# Altium footprint library Connector_Stocko.PcbLib: 20 footprints (part 1 of 2)
Each footprint in its own frame and in the unit in brackets; x right, y up, seen from the top. Pads: shape width x height; smd on the part's side, far side on the other; paste and mask are expansions set on the pad; w line width, h text height; cw(c..) or ccw(c..) is an arc to the next point about the centre after c.
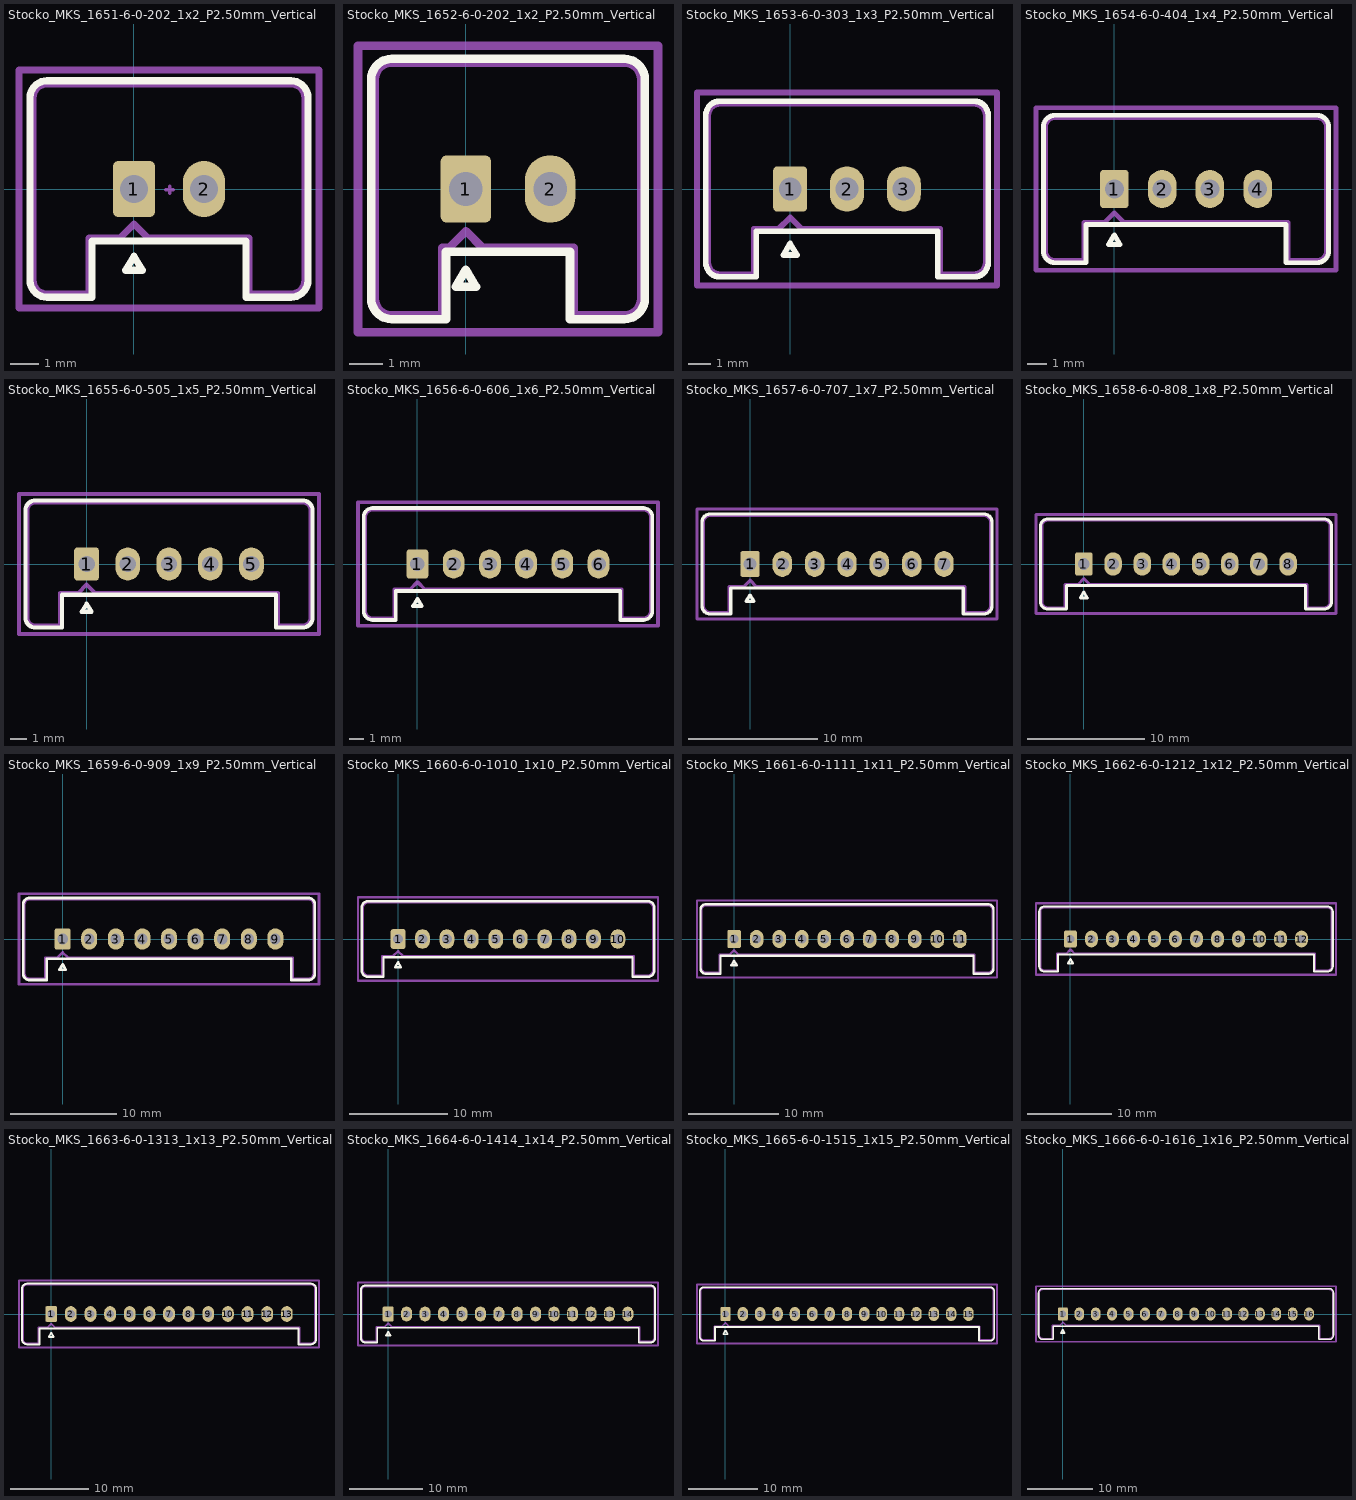
[diagram p0: the footprints below, top view; thin cyan lines are the x and y axes]

## Stocko_MKS_1651-6-0-202_1x2_P2.50mm_Vertical [mm]
pads (2):
  rrect25% 1.5x2 hole 1: 1(0,0)
  rrect100% 1.5x2 hole 1: 2(2.5,0)
F.SilkS:
  lines w0.254: -3.71,-3.25 ccw(c-3.1,-3.25) -3.1,-3.86 -1.49,-3.86 -1.49,-1.86 3.99,-1.86 3.99,-3.86 5.6,-3.86 ccw(c5.6,-3.25) 6.21,-3.25 6.21,3.25 ccw(c5.6,3.25) 5.6,3.86 -3.1,3.86 ccw(c-3.1,3.25) -3.71,3.25 -3.71,-3.25 ; -0.3,-2.9 0,-2.4 0.3,-2.9 -0.3,-2.9
Top Component Center:
  lines w0.127: 1.144,-0.03 1.398,-0.03 ; 1.271,-0.157 1.271,0.097
Top Assembly:
  lines w0.254: -3.6,-3.25 ccw(c-3.1,-3.25) -3.1,-3.75 -1.6,-3.75 -1.6,-1.75 -0.5,-1.75 0,-1.25 0.5,-1.75 4.1,-1.75 4.1,-3.75 5.6,-3.75 ccw(c5.6,-3.25) 6.1,-3.25 6.1,3.25 ccw(c5.6,3.25) 5.6,3.75 -3.1,3.75 ccw(c-3.1,3.25) -3.6,3.25 -3.6,-3.25
  text "'.Designator'" at -2.797,1.16 h1
Top Courtyard:
  lines w0.254: -4.1,-4.25 6.6,-4.25 6.6,4.25 -4.1,4.25 -4.1,-4.25
Top Designator:
  text ".Designator" at -6.368,-0.508 h1.52

## Stocko_MKS_1652-6-0-202_1x2_P2.50mm_Vertical [mm]
pads (2):
  rrect25% 1.5x2 hole 1: 1(0,0)
  rrect100% 1.5x2 hole 1: 2(2.5,0)
F.SilkS:
  lines w0.254: -2.81,-3.25 ccw(c-2.2,-3.25) -2.2,-3.86 -0.59,-3.86 -0.59,-1.86 3.09,-1.86 3.09,-3.86 4.7,-3.86 ccw(c4.7,-3.25) 5.31,-3.25 5.31,3.25 ccw(c4.7,3.25) 4.7,3.86 -2.2,3.86 ccw(c-2.2,3.25) -2.81,3.25 -2.81,-3.25 ; -0.3,-2.9 0,-2.4 0.3,-2.9 -0.3,-2.9
Top Assembly:
  lines w0.254: -2.7,-3.25 ccw(c-2.2,-3.25) -2.2,-3.75 -0.7,-3.75 -0.7,-1.75 -0.5,-1.75 0,-1.25 0.5,-1.75 3.2,-1.75 3.2,-3.75 4.7,-3.75 ccw(c4.7,-3.25) 5.2,-3.25 5.2,3.25 ccw(c4.7,3.25) 4.7,3.75 -2.2,3.75 ccw(c-2.2,3.25) -2.7,3.25 -2.7,-3.25
  text "'.Designator'" at -2.797,1.16 h1
Top Courtyard:
  lines w0.254: -3.2,-4.25 5.7,-4.25 5.7,4.25 -3.2,4.25 -3.2,-4.25
Top Designator:
  text ".Designator" at -6.368,-0.508 h1.52

## Stocko_MKS_1653-6-0-303_1x3_P2.50mm_Vertical [mm]
pads (3):
  rrect25% 1.5x2 hole 1: 1(0,0)
  rrect100% 1.5x2 hole 1: 2(2.5,0) 3(5,0)
F.SilkS:
  lines w0.254: -3.71,-3.25 ccw(c-3.1,-3.25) -3.1,-3.86 -1.49,-3.86 -1.49,-1.86 6.49,-1.86 6.49,-3.86 8.1,-3.86 ccw(c8.1,-3.25) 8.71,-3.25 8.71,3.25 ccw(c8.1,3.25) 8.1,3.86 -3.1,3.86 ccw(c-3.1,3.25) -3.71,3.25 -3.71,-3.25 ; -0.3,-2.9 0,-2.4 0.3,-2.9 -0.3,-2.9
Top Assembly:
  lines w0.254: -3.6,-3.25 ccw(c-3.1,-3.25) -3.1,-3.75 -1.6,-3.75 -1.6,-1.75 -0.5,-1.75 0,-1.25 0.5,-1.75 6.6,-1.75 6.6,-3.75 8.1,-3.75 ccw(c8.1,-3.25) 8.6,-3.25 8.6,3.25 ccw(c8.1,3.25) 8.1,3.75 -3.1,3.75 ccw(c-3.1,3.25) -3.6,3.25 -3.6,-3.25
  text "'.Designator'" at -1.547,1.16 h1
Top Courtyard:
  lines w0.254: -4.1,-4.25 9.1,-4.25 9.1,4.25 -4.1,4.25 -4.1,-4.25
Top Designator:
  text ".Designator" at -5.118,-0.508 h1.52

## Stocko_MKS_1654-6-0-404_1x4_P2.50mm_Vertical [mm]
pads (4):
  rrect25% 1.5x2 hole 1: 1(0,0)
  rrect100% 1.5x2 hole 1: 2(2.5,0) 3(5,0) 4(7.5,0)
F.SilkS:
  lines w0.254: -3.71,-3.25 ccw(c-3.1,-3.25) -3.1,-3.86 -1.49,-3.86 -1.49,-1.86 8.99,-1.86 8.99,-3.86 10.6,-3.86 ccw(c10.6,-3.25) 11.21,-3.25 11.21,3.25 ccw(c10.6,3.25) 10.6,3.86 -3.1,3.86 ccw(c-3.1,3.25) -3.71,3.25 -3.71,-3.25 ; -0.3,-2.9 0,-2.4 0.3,-2.9 -0.3,-2.9
Top Assembly:
  lines w0.254: -3.6,-3.25 ccw(c-3.1,-3.25) -3.1,-3.75 -1.6,-3.75 -1.6,-1.75 -0.5,-1.75 0,-1.25 0.5,-1.75 9.1,-1.75 9.1,-3.75 10.6,-3.75 ccw(c10.6,-3.25) 11.1,-3.25 11.1,3.25 ccw(c10.6,3.25) 10.6,3.75 -3.1,3.75 ccw(c-3.1,3.25) -3.6,3.25 -3.6,-3.25
  text "'.Designator'" at -0.297,1.16 h1
Top Courtyard:
  lines w0.254: -4.1,-4.25 11.6,-4.25 11.6,4.25 -4.1,4.25 -4.1,-4.25
Top Designator:
  text ".Designator" at -3.868,-0.508 h1.52

## Stocko_MKS_1655-6-0-505_1x5_P2.50mm_Vertical [mm]
pads (5):
  rrect25% 1.5x2 hole 1: 1(0,0)
  rrect100% 1.5x2 hole 1: 2(2.5,0) 3(5,0) 4(7.5,0) 5(10,0)
F.SilkS:
  lines w0.254: -3.71,-3.25 ccw(c-3.1,-3.25) -3.1,-3.86 -1.49,-3.86 -1.49,-1.86 11.49,-1.86 11.49,-3.86 13.1,-3.86 ccw(c13.1,-3.25) 13.71,-3.25 13.71,3.25 ccw(c13.1,3.25) 13.1,3.86 -3.1,3.86 ccw(c-3.1,3.25) -3.71,3.25 -3.71,-3.25 ; -0.3,-2.9 0,-2.4 0.3,-2.9 -0.3,-2.9
Top Assembly:
  lines w0.254: -3.6,-3.25 ccw(c-3.1,-3.25) -3.1,-3.75 -1.6,-3.75 -1.6,-1.75 -0.5,-1.75 0,-1.25 0.5,-1.75 11.6,-1.75 11.6,-3.75 13.1,-3.75 ccw(c13.1,-3.25) 13.6,-3.25 13.6,3.25 ccw(c13.1,3.25) 13.1,3.75 -3.1,3.75 ccw(c-3.1,3.25) -3.6,3.25 -3.6,-3.25
  text "'.Designator'" at 0.953,1.16 h1
Top Courtyard:
  lines w0.254: -4.1,-4.25 14.1,-4.25 14.1,4.25 -4.1,4.25 -4.1,-4.25
Top Designator:
  text ".Designator" at -2.618,-0.508 h1.52

## Stocko_MKS_1656-6-0-606_1x6_P2.50mm_Vertical [mm]
pads (6):
  rrect25% 1.5x2 hole 1: 1(0,0)
  rrect100% 1.5x2 hole 1: 2(2.5,0) 3(5,0) 4(7.5,0) 5(10,0) 6(12.5,0)
F.SilkS:
  lines w0.254: -3.71,-3.25 ccw(c-3.1,-3.25) -3.1,-3.86 -1.49,-3.86 -1.49,-1.86 13.99,-1.86 13.99,-3.86 15.6,-3.86 ccw(c15.6,-3.25) 16.21,-3.25 16.21,3.25 ccw(c15.6,3.25) 15.6,3.86 -3.1,3.86 ccw(c-3.1,3.25) -3.71,3.25 -3.71,-3.25 ; -0.3,-2.9 0,-2.4 0.3,-2.9 -0.3,-2.9
Top Assembly:
  lines w0.254: -3.6,-3.25 ccw(c-3.1,-3.25) -3.1,-3.75 -1.6,-3.75 -1.6,-1.75 -0.5,-1.75 0,-1.25 0.5,-1.75 14.1,-1.75 14.1,-3.75 15.6,-3.75 ccw(c15.6,-3.25) 16.1,-3.25 16.1,3.25 ccw(c15.6,3.25) 15.6,3.75 -3.1,3.75 ccw(c-3.1,3.25) -3.6,3.25 -3.6,-3.25
  text "'.Designator'" at 2.203,1.16 h1
Top Courtyard:
  lines w0.254: -4.1,-4.25 16.6,-4.25 16.6,4.25 -4.1,4.25 -4.1,-4.25
Top Designator:
  text ".Designator" at -1.368,-0.508 h1.52

## Stocko_MKS_1657-6-0-707_1x7_P2.50mm_Vertical [mm]
pads (7):
  rrect25% 1.5x2 hole 1: 1(0,0)
  rrect100% 1.5x2 hole 1: 2(2.5,0) 3(5,0) 4(7.5,0) 5(10,0) 6(12.5,0) 7(15,0)
F.SilkS:
  lines w0.254: -3.71,-3.25 ccw(c-3.1,-3.25) -3.1,-3.86 -1.49,-3.86 -1.49,-1.86 16.49,-1.86 16.49,-3.86 18.1,-3.86 ccw(c18.1,-3.25) 18.71,-3.25 18.71,3.25 ccw(c18.1,3.25) 18.1,3.86 -3.1,3.86 ccw(c-3.1,3.25) -3.71,3.25 -3.71,-3.25 ; -0.3,-2.9 0,-2.4 0.3,-2.9 -0.3,-2.9
Top Assembly:
  lines w0.254: -3.6,-3.25 ccw(c-3.1,-3.25) -3.1,-3.75 -1.6,-3.75 -1.6,-1.75 -0.5,-1.75 0,-1.25 0.5,-1.75 16.6,-1.75 16.6,-3.75 18.1,-3.75 ccw(c18.1,-3.25) 18.6,-3.25 18.6,3.25 ccw(c18.1,3.25) 18.1,3.75 -3.1,3.75 ccw(c-3.1,3.25) -3.6,3.25 -3.6,-3.25
  text "'.Designator'" at 3.453,1.16 h1
Top Courtyard:
  lines w0.254: -4.1,-4.25 19.1,-4.25 19.1,4.25 -4.1,4.25 -4.1,-4.25
Top Designator:
  text ".Designator" at -0.118,-0.508 h1.52

## Stocko_MKS_1658-6-0-808_1x8_P2.50mm_Vertical [mm]
pads (8):
  rrect25% 1.5x2 hole 1: 1(0,0)
  rrect100% 1.5x2 hole 1: 2(2.5,0) 3(5,0) 4(7.5,0) 5(10,0) 6(12.5,0) 7(15,0) 8(17.5,0)
F.SilkS:
  lines w0.254: -3.71,-3.25 ccw(c-3.1,-3.25) -3.1,-3.86 -1.49,-3.86 -1.49,-1.86 18.99,-1.86 18.99,-3.86 20.6,-3.86 ccw(c20.6,-3.25) 21.21,-3.25 21.21,3.25 ccw(c20.6,3.25) 20.6,3.86 -3.1,3.86 ccw(c-3.1,3.25) -3.71,3.25 -3.71,-3.25 ; -0.3,-2.9 0,-2.4 0.3,-2.9 -0.3,-2.9
Top Assembly:
  lines w0.254: -3.6,-3.25 ccw(c-3.1,-3.25) -3.1,-3.75 -1.6,-3.75 -1.6,-1.75 -0.5,-1.75 0,-1.25 0.5,-1.75 19.1,-1.75 19.1,-3.75 20.6,-3.75 ccw(c20.6,-3.25) 21.1,-3.25 21.1,3.25 ccw(c20.6,3.25) 20.6,3.75 -3.1,3.75 ccw(c-3.1,3.25) -3.6,3.25 -3.6,-3.25
  text "'.Designator'" at 4.703,1.16 h1
Top Courtyard:
  lines w0.254: -4.1,-4.25 21.6,-4.25 21.6,4.25 -4.1,4.25 -4.1,-4.25
Top Designator:
  text ".Designator" at 1.132,-0.508 h1.52

## Stocko_MKS_1659-6-0-909_1x9_P2.50mm_Vertical [mm]
pads (9):
  rrect25% 1.5x2 hole 1: 1(0,0)
  rrect100% 1.5x2 hole 1: 2(2.5,0) 3(5,0) 4(7.5,0) 5(10,0) 6(12.5,0) 7(15,0) 8(17.5,0) 9(20,0)
F.SilkS:
  lines w0.254: -3.71,-3.25 ccw(c-3.1,-3.25) -3.1,-3.86 -1.49,-3.86 -1.49,-1.86 21.49,-1.86 21.49,-3.86 23.1,-3.86 ccw(c23.1,-3.25) 23.71,-3.25 23.71,3.25 ccw(c23.1,3.25) 23.1,3.86 -3.1,3.86 ccw(c-3.1,3.25) -3.71,3.25 -3.71,-3.25 ; -0.3,-2.9 0,-2.4 0.3,-2.9 -0.3,-2.9
Top Assembly:
  lines w0.254: -3.6,-3.25 ccw(c-3.1,-3.25) -3.1,-3.75 -1.6,-3.75 -1.6,-1.75 -0.5,-1.75 0,-1.25 0.5,-1.75 21.6,-1.75 21.6,-3.75 23.1,-3.75 ccw(c23.1,-3.25) 23.6,-3.25 23.6,3.25 ccw(c23.1,3.25) 23.1,3.75 -3.1,3.75 ccw(c-3.1,3.25) -3.6,3.25 -3.6,-3.25
  text "'.Designator'" at 5.953,1.16 h1
Top Courtyard:
  lines w0.254: -4.1,-4.25 24.1,-4.25 24.1,4.25 -4.1,4.25 -4.1,-4.25
Top Designator:
  text ".Designator" at 2.382,-0.508 h1.52

## Stocko_MKS_1660-6-0-1010_1x10_P2.50mm_Vertical [mm]
pads (10):
  rrect25% 1.5x2 hole 1: 1(0,0)
  rrect100% 1.5x2 hole 1: 2(2.5,0) 3(5,0) 4(7.5,0) 5(10,0) 6(12.5,0) 7(15,0) 8(17.5,0) 9(20,0) 10(22.5,0)
F.SilkS:
  lines w0.254: -3.71,-3.25 ccw(c-3.1,-3.25) -3.1,-3.86 -1.49,-3.86 -1.49,-1.86 23.99,-1.86 23.99,-3.86 25.6,-3.86 ccw(c25.6,-3.25) 26.21,-3.25 26.21,3.25 ccw(c25.6,3.25) 25.6,3.86 -3.1,3.86 ccw(c-3.1,3.25) -3.71,3.25 -3.71,-3.25 ; -0.3,-2.9 0,-2.4 0.3,-2.9 -0.3,-2.9
Top Assembly:
  lines w0.254: -3.6,-3.25 ccw(c-3.1,-3.25) -3.1,-3.75 -1.6,-3.75 -1.6,-1.75 -0.5,-1.75 0,-1.25 0.5,-1.75 24.1,-1.75 24.1,-3.75 25.6,-3.75 ccw(c25.6,-3.25) 26.1,-3.25 26.1,3.25 ccw(c25.6,3.25) 25.6,3.75 -3.1,3.75 ccw(c-3.1,3.25) -3.6,3.25 -3.6,-3.25
  text "'.Designator'" at 7.203,1.16 h1
Top Courtyard:
  lines w0.254: -4.1,-4.25 26.6,-4.25 26.6,4.25 -4.1,4.25 -4.1,-4.25
Top Designator:
  text ".Designator" at 3.632,-0.508 h1.52

## Stocko_MKS_1661-6-0-1111_1x11_P2.50mm_Vertical [mm]
pads (11):
  rrect25% 1.5x2 hole 1: 1(0,0)
  rrect100% 1.5x2 hole 1: 2(2.5,0) 3(5,0) 4(7.5,0) 5(10,0) 6(12.5,0) 7(15,0) 8(17.5,0) 9(20,0) 10(22.5,0) 11(25,0)
F.SilkS:
  lines w0.254: -3.71,-3.25 ccw(c-3.1,-3.25) -3.1,-3.86 -1.49,-3.86 -1.49,-1.86 26.49,-1.86 26.49,-3.86 28.1,-3.86 ccw(c28.1,-3.25) 28.71,-3.25 28.71,3.25 ccw(c28.1,3.25) 28.1,3.86 -3.1,3.86 ccw(c-3.1,3.25) -3.71,3.25 -3.71,-3.25 ; -0.3,-2.9 0,-2.4 0.3,-2.9 -0.3,-2.9
Top Assembly:
  lines w0.254: -3.6,-3.25 ccw(c-3.1,-3.25) -3.1,-3.75 -1.6,-3.75 -1.6,-1.75 -0.5,-1.75 0,-1.25 0.5,-1.75 26.6,-1.75 26.6,-3.75 28.1,-3.75 ccw(c28.1,-3.25) 28.6,-3.25 28.6,3.25 ccw(c28.1,3.25) 28.1,3.75 -3.1,3.75 ccw(c-3.1,3.25) -3.6,3.25 -3.6,-3.25
  text "'.Designator'" at 8.453,1.16 h1
Top Courtyard:
  lines w0.254: -4.1,-4.25 29.1,-4.25 29.1,4.25 -4.1,4.25 -4.1,-4.25
Top Designator:
  text ".Designator" at 4.882,-0.508 h1.52

## Stocko_MKS_1662-6-0-1212_1x12_P2.50mm_Vertical [mm]
pads (12):
  rrect25% 1.5x2 hole 1: 1(0,0)
  rrect100% 1.5x2 hole 1: 2(2.5,0) 3(5,0) 4(7.5,0) 5(10,0) 6(12.5,0) 7(15,0) 8(17.5,0) 9(20,0) 10(22.5,0) 11(25,0) 12(27.5,0)
F.SilkS:
  lines w0.254: -3.71,-3.25 ccw(c-3.1,-3.25) -3.1,-3.86 -1.49,-3.86 -1.49,-1.86 28.99,-1.86 28.99,-3.86 30.6,-3.86 ccw(c30.6,-3.25) 31.21,-3.25 31.21,3.25 ccw(c30.6,3.25) 30.6,3.86 -3.1,3.86 ccw(c-3.1,3.25) -3.71,3.25 -3.71,-3.25 ; -0.3,-2.9 0,-2.4 0.3,-2.9 -0.3,-2.9
Top Assembly:
  lines w0.254: -3.6,-3.25 ccw(c-3.1,-3.25) -3.1,-3.75 -1.6,-3.75 -1.6,-1.75 -0.5,-1.75 0,-1.25 0.5,-1.75 29.1,-1.75 29.1,-3.75 30.6,-3.75 ccw(c30.6,-3.25) 31.1,-3.25 31.1,3.25 ccw(c30.6,3.25) 30.6,3.75 -3.1,3.75 ccw(c-3.1,3.25) -3.6,3.25 -3.6,-3.25
  text "'.Designator'" at 9.703,1.16 h1
Top Courtyard:
  lines w0.254: -4.1,-4.25 31.6,-4.25 31.6,4.25 -4.1,4.25 -4.1,-4.25
Top Designator:
  text ".Designator" at 6.132,-0.508 h1.52

## Stocko_MKS_1663-6-0-1313_1x13_P2.50mm_Vertical [mm]
pads (13):
  rrect25% 1.5x2 hole 1: 1(0,0)
  rrect100% 1.5x2 hole 1: 2(2.5,0) 3(5,0) 4(7.5,0) 5(10,0) 6(12.5,0) 7(15,0) 8(17.5,0) 9(20,0) 10(22.5,0) 11(25,0) 12(27.5,0) 13(30,0)
F.SilkS:
  lines w0.254: -3.71,-3.25 ccw(c-3.1,-3.25) -3.1,-3.86 -1.49,-3.86 -1.49,-1.86 31.49,-1.86 31.49,-3.86 33.1,-3.86 ccw(c33.1,-3.25) 33.71,-3.25 33.71,3.25 ccw(c33.1,3.25) 33.1,3.86 -3.1,3.86 ccw(c-3.1,3.25) -3.71,3.25 -3.71,-3.25 ; -0.3,-2.9 0,-2.4 0.3,-2.9 -0.3,-2.9
Top Assembly:
  lines w0.254: -3.6,-3.25 ccw(c-3.1,-3.25) -3.1,-3.75 -1.6,-3.75 -1.6,-1.75 -0.5,-1.75 0,-1.25 0.5,-1.75 31.6,-1.75 31.6,-3.75 33.1,-3.75 ccw(c33.1,-3.25) 33.6,-3.25 33.6,3.25 ccw(c33.1,3.25) 33.1,3.75 -3.1,3.75 ccw(c-3.1,3.25) -3.6,3.25 -3.6,-3.25
  text "'.Designator'" at 10.953,1.16 h1
Top Courtyard:
  lines w0.254: -4.1,-4.25 34.1,-4.25 34.1,4.25 -4.1,4.25 -4.1,-4.25
Top Designator:
  text ".Designator" at 7.382,-0.508 h1.52

## Stocko_MKS_1664-6-0-1414_1x14_P2.50mm_Vertical [mm]
pads (14):
  rrect25% 1.5x2 hole 1: 1(0,0)
  rrect100% 1.5x2 hole 1: 2(2.5,0) 3(5,0) 4(7.5,0) 5(10,0) 6(12.5,0) 7(15,0) 8(17.5,0) 9(20,0) 10(22.5,0) 11(25,0) 12(27.5,0) 13(30,0) 14(32.5,0)
F.SilkS:
  lines w0.254: -3.71,-3.25 ccw(c-3.1,-3.25) -3.1,-3.86 -1.49,-3.86 -1.49,-1.86 33.99,-1.86 33.99,-3.86 35.6,-3.86 ccw(c35.6,-3.25) 36.21,-3.25 36.21,3.25 ccw(c35.6,3.25) 35.6,3.86 -3.1,3.86 ccw(c-3.1,3.25) -3.71,3.25 -3.71,-3.25 ; -0.3,-2.9 0,-2.4 0.3,-2.9 -0.3,-2.9
Top Assembly:
  lines w0.254: -3.6,-3.25 ccw(c-3.1,-3.25) -3.1,-3.75 -1.6,-3.75 -1.6,-1.75 -0.5,-1.75 0,-1.25 0.5,-1.75 34.1,-1.75 34.1,-3.75 35.6,-3.75 ccw(c35.6,-3.25) 36.1,-3.25 36.1,3.25 ccw(c35.6,3.25) 35.6,3.75 -3.1,3.75 ccw(c-3.1,3.25) -3.6,3.25 -3.6,-3.25
  text "'.Designator'" at 12.203,1.16 h1
Top Courtyard:
  lines w0.254: -4.1,-4.25 36.6,-4.25 36.6,4.25 -4.1,4.25 -4.1,-4.25
Top Designator:
  text ".Designator" at 8.632,-0.508 h1.52

## Stocko_MKS_1665-6-0-1515_1x15_P2.50mm_Vertical [mm]
pads (15):
  rrect25% 1.5x2 hole 1: 1(0,0)
  rrect100% 1.5x2 hole 1: 2(2.5,0) 3(5,0) 4(7.5,0) 5(10,0) 6(12.5,0) 7(15,0) 8(17.5,0) 9(20,0) 10(22.5,0) 11(25,0) 12(27.5,0) 13(30,0) 14(32.5,0) 15(35,0)
F.SilkS:
  lines w0.254: -3.71,-3.25 ccw(c-3.1,-3.25) -3.1,-3.86 -1.49,-3.86 -1.49,-1.86 36.49,-1.86 36.49,-3.86 38.1,-3.86 ccw(c38.1,-3.25) 38.71,-3.25 38.71,3.25 ccw(c38.1,3.25) 38.1,3.86 -3.1,3.86 ccw(c-3.1,3.25) -3.71,3.25 -3.71,-3.25 ; -0.3,-2.9 0,-2.4 0.3,-2.9 -0.3,-2.9
Top Assembly:
  lines w0.254: -3.6,-3.25 ccw(c-3.1,-3.25) -3.1,-3.75 -1.6,-3.75 -1.6,-1.75 -0.5,-1.75 0,-1.25 0.5,-1.75 36.6,-1.75 36.6,-3.75 38.1,-3.75 ccw(c38.1,-3.25) 38.6,-3.25 38.6,3.25 ccw(c38.1,3.25) 38.1,3.75 -3.1,3.75 ccw(c-3.1,3.25) -3.6,3.25 -3.6,-3.25
  text "'.Designator'" at 13.453,1.16 h1
Top Courtyard:
  lines w0.254: -4.1,-4.25 39.1,-4.25 39.1,4.25 -4.1,4.25 -4.1,-4.25
Top Designator:
  text ".Designator" at 9.882,-0.508 h1.52

## Stocko_MKS_1666-6-0-1616_1x16_P2.50mm_Vertical [mm]
pads (16):
  rrect25% 1.5x2 hole 1: 1(0,0)
  rrect100% 1.5x2 hole 1: 2(2.5,0) 3(5,0) 4(7.5,0) 5(10,0) 6(12.5,0) 7(15,0) 8(17.5,0) 9(20,0) 10(22.5,0) 11(25,0) 12(27.5,0) 13(30,0) 14(32.5,0) 15(35,0) 16(37.5,0)
F.SilkS:
  lines w0.254: -3.71,-3.25 ccw(c-3.1,-3.25) -3.1,-3.86 -1.49,-3.86 -1.49,-1.86 38.99,-1.86 38.99,-3.86 40.6,-3.86 ccw(c40.6,-3.25) 41.21,-3.25 41.21,3.25 ccw(c40.6,3.25) 40.6,3.86 -3.1,3.86 ccw(c-3.1,3.25) -3.71,3.25 -3.71,-3.25 ; -0.3,-2.9 0,-2.4 0.3,-2.9 -0.3,-2.9
Top Assembly:
  lines w0.254: -3.6,-3.25 ccw(c-3.1,-3.25) -3.1,-3.75 -1.6,-3.75 -1.6,-1.75 -0.5,-1.75 0,-1.25 0.5,-1.75 39.1,-1.75 39.1,-3.75 40.6,-3.75 ccw(c40.6,-3.25) 41.1,-3.25 41.1,3.25 ccw(c40.6,3.25) 40.6,3.75 -3.1,3.75 ccw(c-3.1,3.25) -3.6,3.25 -3.6,-3.25
  text "'.Designator'" at 14.703,1.16 h1
Top Courtyard:
  lines w0.254: -4.1,-4.25 41.6,-4.25 41.6,4.25 -4.1,4.25 -4.1,-4.25
Top Designator:
  text ".Designator" at 11.132,-0.508 h1.52